# Altium footprint library Flex-Sparkgap.PcbLib: 1 footprints
Each footprint in its own frame and in the unit in brackets; x right, y up, seen from the top. Pads: shape width x height; smd on the part's side, far side on the other; paste and mask are expansions set on the pad; w line width, h text height; cw(c..) or ccw(c..) is an arc to the next point about the centre after c.
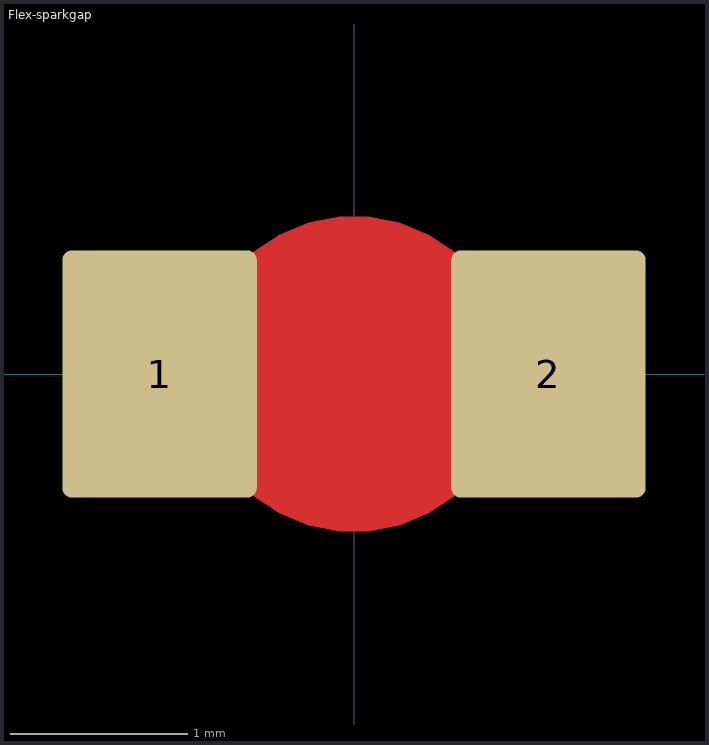
[diagram p0: the footprint, top view; thin cyan lines are the x and y axes]

## Flex-sparkgap [mm]
pads (2):
  rrect10% 1.1x1.4 smd paste-999 mask-999: 1(-1.1,0) 2(1.1,0)
Top Layer:
  region: 0.6,-0.7 0.1,0 0.6,0.7
  region: -0.6,0.7 -0.1,0 -0.6,-0.7
  pour cut-out: 0,-0.889 -0.088,-0.889 -0.259,-0.855 -0.421,-0.788 -0.567,-0.691 -0.691,-0.567 -0.788,-0.421 -0.855,-0.259 -0.889,-0.088 -0.889,0 -0.889,0.088 -0.855,0.259 -0.788,0.421 -0.691,0.567 -0.567,0.691 -0.421,0.788 -0.259,0.855 -0.088,0.889 0,0.889 0.088,0.889 0.259,0.855 0.421,0.788 0.567,0.691 0.691,0.567 0.788,0.421 0.855,0.259 0.889,0.088 0.889,0 0.889,-0.088 0.855,-0.259 0.788,-0.421 0.691,-0.567 0.567,-0.691 0.421,-0.788 0.259,-0.855 0.088,-0.889
Top Solder:
  region: 0,-0.889 -0.088,-0.889 -0.259,-0.855 -0.421,-0.788 -0.567,-0.691 -0.691,-0.567 -0.788,-0.421 -0.855,-0.259 -0.889,-0.088 -0.889,0 -0.889,0.088 -0.855,0.259 -0.788,0.421 -0.691,0.567 -0.567,0.691 -0.421,0.788 -0.259,0.855 -0.088,0.889 0,0.889 0.088,0.889 0.259,0.855 0.421,0.788 0.567,0.691 0.691,0.567 0.788,0.421 0.855,0.259 0.889,0.088 0.889,0 0.889,-0.088 0.855,-0.259 0.788,-0.421 0.691,-0.567 0.567,-0.691 0.421,-0.788 0.259,-0.855 0.088,-0.889